# EAGLE library part LMJ2138812S0LOT6C (library anasoft)
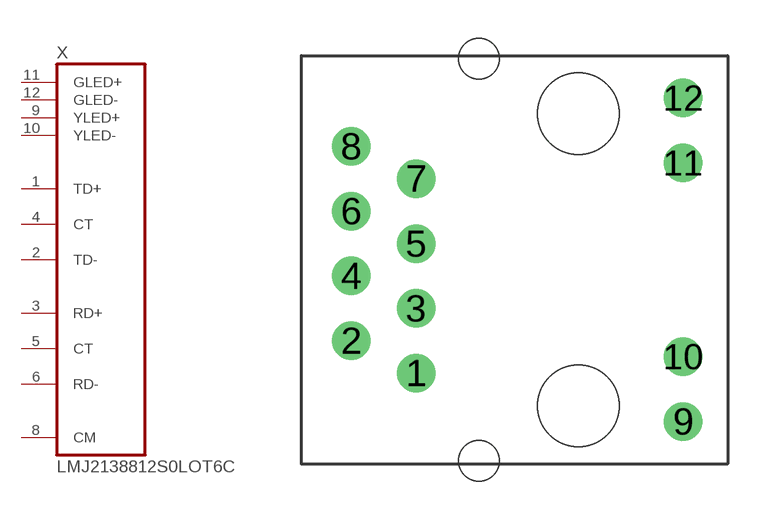
[diagram p4: symbol with the pads of LMJ2138812S0LOT6C; footprint LMJ2138812S0LOT6C]

Designator prefix X

## LMJ2138812S0LOT6C  [LMJ2138812S0LOT6C]
1  TD+  pas
2  TD-  pas
3  RD+  pas
4  CT  pas
5  CT  pas
6  RD-  pas
8  CM  pas
9  YLED+  pas
10  YLED-  pas
11  GLED+  pas
12  GLED-  pas

## Footprint LMJ2138812S0LOT6C (pad centres in mm)
drill 1 round: 1 2.54,-4.445; 2 0,-3.175; 3 2.54,-1.905; 4 0,-0.635; 5 2.54,0.635; 6 0,1.905; 7 2.54,3.175; 8 0,4.445; 9 13,-6.335; 10 13,-3.795; 11 13,3.795; 12 13,6.335
hole 1.6 at 5,-7.875
hole 1.6 at 5,7.875
hole 3.2 at 8.89,-5.715
hole 3.2 at 8.89,5.715